# EAGLE library part EL4583CN (library Intersil_By_element14_Batch_1)
Sync Separator
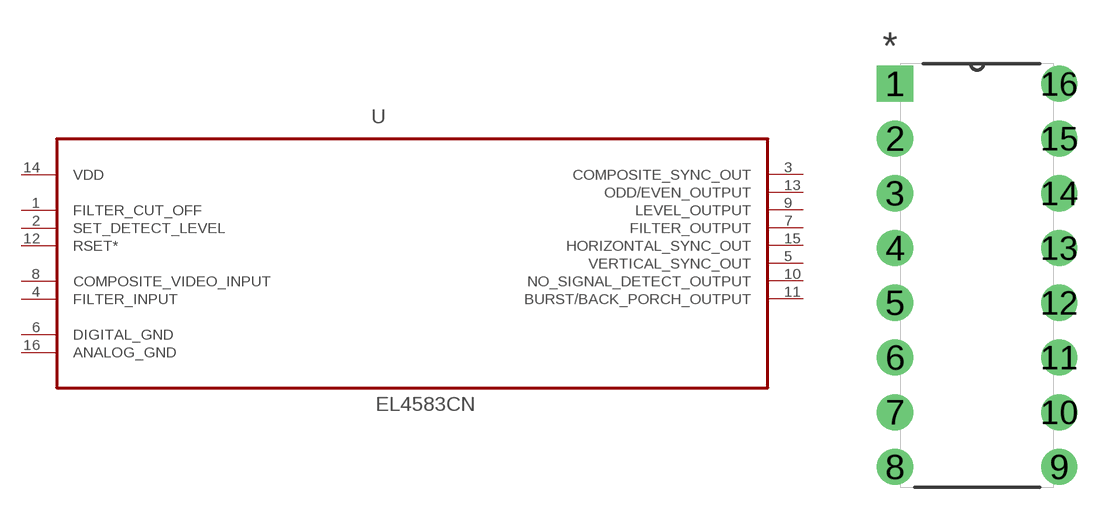
[diagram p56: symbol with the pads of DIP254P762X533-16; footprint DIP254P762X533-16]

Designator prefix U

## EL4583CN (MPN: EL4583CN; OC_FARNELL: -; OC_NEWARK: 62H4858; PACKAGE: DIP-16; SUPPLIER: INTERSIL)  [DIP254P762X533-16]
1  FILTER_CUT_OFF  in
2  SET_DETECT_LEVEL  in
3  COMPOSITE_SYNC_OUT  out
4  FILTER_INPUT  in
5  VERTICAL_SYNC_OUT  out
6  DIGITAL_GND  pas
7  FILTER_OUTPUT  out
8  COMPOSITE_VIDEO_INPUT  in
9  LEVEL_OUTPUT  out
10  NO_SIGNAL_DETECT_OUTPUT  out
11  BURST/BACK_PORCH_OUTPUT  out
12  RSET*  in
13  ODD/EVEN_OUTPUT  out
14  VDD  pwr
15  HORIZONTAL_SYNC_OUT  out
16  ANALOG_GND  pas

## Footprint DIP254P762X533-16 (pad centres in mm)
drill 1.118 square: 1 -7.62,17.78
drill 1.118: 2 -7.62,15.24; 3 -7.62,12.7; 4 -7.62,10.16; 5 -7.62,7.62; 6 -7.62,5.08; 7 -7.62,2.54; 8 -7.62,0; 9 0,0; 10 0,2.54; 11 0,5.08; 12 0,7.62; 13 0,10.16; 14 0,12.7; 15 0,15.24; 16 0,17.78